# EAGLE library part ILMATTOSHEILD (library Headers)
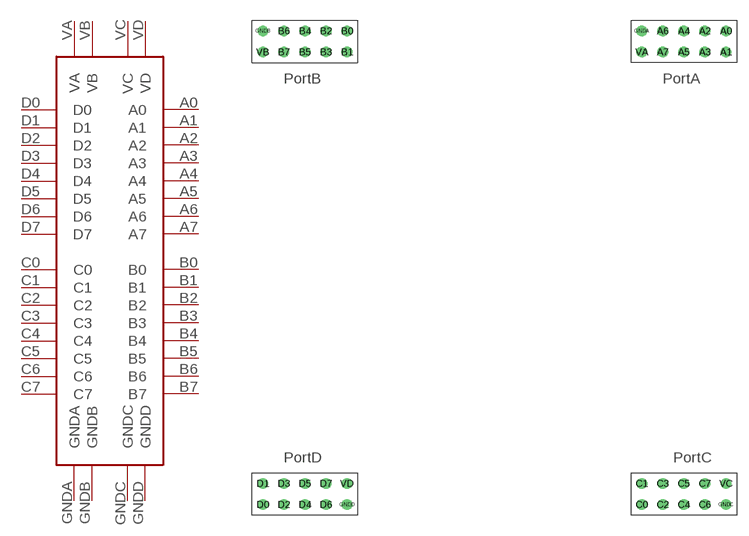
[diagram p3: symbol with the pads of ILMATSHEILD; footprint ILMATSHEILD]

Designator prefix -

## ILMATTOSHEILD  [ILMATSHEILD]
A0  A0
A1  A1
A2  A2
A3  A3
A4  A4
A5  A5
A6  A6
A7  A7
B0  B0
B1  B1
B2  B2
B3  B3
B4  B4
B5  B5
B6  B6
B7  B7
C0  C0
C1  C1
C2  C2
C3  C3
C4  C4
C5  C5
C6  C6
C7  C7
D0  D0
D1  D1
D2  D2
D3  D3
D4  D4
D5  D5
D6  D6
D7  D7
GNDA  GNDA
GNDB  GNDB
GNDC  GNDC
GNDD  GNDD
VA  VA
VB  VB
VC  VC
VD  VD

## Footprint ILMATSHEILD (pad centres in mm)
drill 0.8: A0 57.15,58.42; A1 57.15,55.88; A2 54.61,58.42; A3 54.61,55.88; A4 52.07,58.42; A5 52.07,55.88; A6 49.53,58.42; A7 49.53,55.88; B0 11.43,58.42; B1 11.43,55.88; B2 8.89,58.42; B3 8.89,55.88; B4 6.35,58.42; B5 6.35,55.88; B6 3.81,58.42; B7 3.81,55.88; C0 46.99,1.27; C1 46.99,3.81; C2 49.53,1.27; C3 49.53,3.81; C4 52.07,1.27; C5 52.07,3.81; C6 54.61,1.27; C7 54.61,3.81; D0 1.27,1.27; D1 1.27,3.81; D2 3.81,1.27; D3 3.81,3.81; D4 6.35,1.27; D5 6.35,3.81; D6 8.89,1.27; D7 8.89,3.81; GNDA 46.99,58.42; GNDB 1.27,58.42; GNDC 57.15,1.27; GNDD 11.43,1.27; VA 46.99,55.88; VB 1.27,55.88; VC 57.15,3.81; VD 11.43,3.81